# EAGLE library part KSZ8081 (library balto)
KSZ8081RNA/KSZ8081RND 10Base-T/100Base-TX PHY with RMII Support
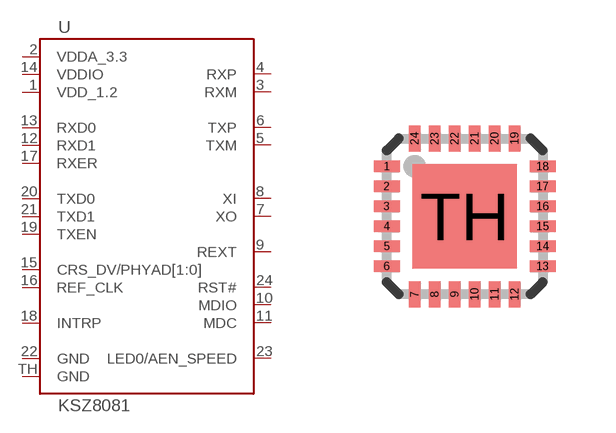
[diagram p26: symbol with the pads of QFN24; footprint QFN24]

Designator prefix U

## KSZ8081  [QFN24]
1  VDD_1.2
2  VDDA_3.3
3  RXM
4  RXP
5  TXM
6  TXP
7  XO
8  XI
9  REXT
10  MDIO
11  MDC
12  RXD1
13  RXD0
14  VDDIO
15  CRS_DV/PHYAD[1:0]
16  REF_CLK
17  RXER
18  INTRP
19  TXEN
20  TXD0
21  TXD1
22  GND
23  LED0/AEN_SPEED
24  RST#
TH  GND

## Footprint QFN24 (pad centres in mm)
smd 0.65 x 0.29: 1 -1.95,1.25; 2 -1.95,0.75; 3 -1.95,0.25; 4 -1.95,-0.25; 5 -1.95,-0.75; 6 -1.95,-1.25; 13 1.95,-1.25; 14 1.95,-0.75; 15 1.95,-0.25; 16 1.95,0.25; 17 1.95,0.75; 18 1.95,1.25
smd 0.29 x 0.65: 7 -1.25,-1.95; 8 -0.75,-1.95; 9 -0.25,-1.95; 10 0.25,-1.95; 11 0.75,-1.95; 12 1.25,-1.95; 19 1.25,1.95; 20 0.75,1.95; 21 0.25,1.95; 22 -0.25,1.95; 23 -0.75,1.95; 24 -1.25,1.95
smd 2.6 x 2.6: TH 0,0